# Altium schematic symbol library Symbols.SchLib: 11 symbols
Pins are listed as number, name and electrical type; pins without a type are passive.

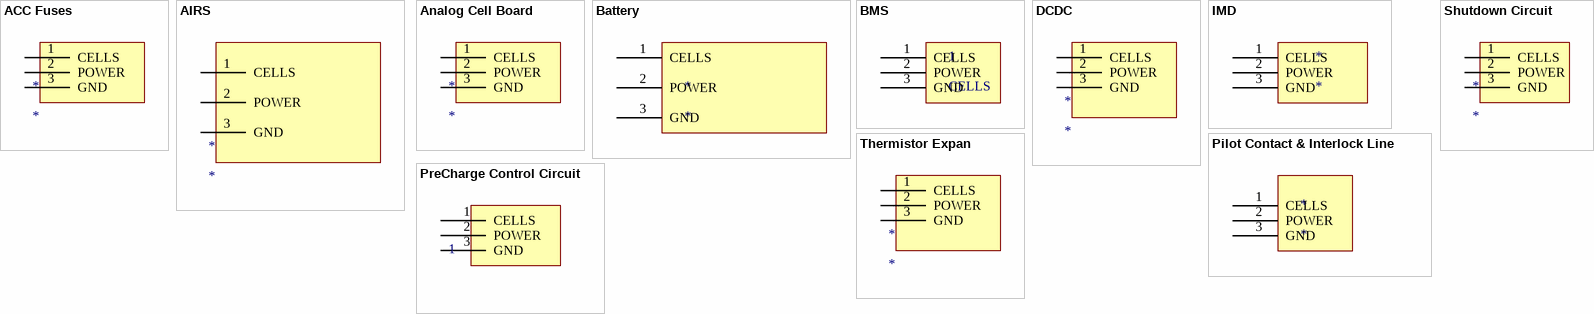
[diagram p0: symbols ACC Fuses to Thermistor Expan]

## ACC Fuses
designator *
pins: 1 CELLS, 2 POWER, 3 GND

## AIRS
designator *
pins: 1 CELLS, 2 POWER, 3 GND

## Analog Cell Board
designator *
pins: 1 CELLS, 2 POWER, 3 GND

## Battery
designator *
pins: 1 CELLS, 2 POWER, 3 GND

## BMS
designator 1, comment CELLS
pins: 1 CELLS, 2 POWER, 3 GND

## DCDC
designator *
pins: 1 CELLS, 2 POWER, 3 GND

## IMD
designator *
pins: 1 CELLS, 2 POWER, 3 GND

## Pilot Contact & Interlock Line
designator *
pins: 1 CELLS, 2 POWER, 3 GND

## PreCharge Control Circuit
designator 1
pins: 1 CELLS, 2 POWER, 3 GND

## Shutdown Circuit
designator *
pins: 1 CELLS, 2 POWER, 3 GND

## Thermistor Expan
designator *
pins: 1 CELLS, 2 POWER, 3 GND